# EAGLE library part DC-ME (library digi)
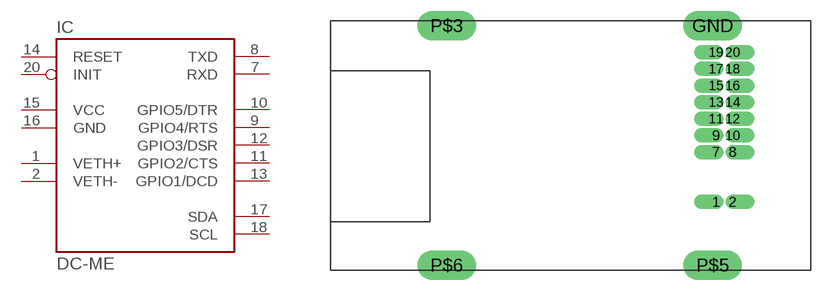
[diagram p0: symbol with the pads of DC-ME; footprint DC-ME]

Designator prefix IC

## DC-ME  [DC-ME]
1  VETH+
2  VETH-
7  RXD
8  TXD
9  GPIO4/RTS
10  GPIO5/DTR
11  GPIO2/CTS
12  GPIO3/DSR
13  GPIO1/DCD
14  RESET  in
15  VCC  pwr
16  GND  pwr
17  SDA
18  SCL
20  INIT  in

## Footprint DC-ME (pad centres in mm)
drill 0.61 pad 1.016 offset: 1 29.464,5.207; 2 30.734,5.207; 7 29.464,9.017; 8 30.734,9.017; 9 29.464,10.287; 10 30.734,10.287; 11 29.464,11.557; 12 30.734,11.557; 13 29.464,12.827; 14 30.734,12.827; 15 29.464,14.097; 16 30.734,14.097; 17 29.464,15.367; 18 30.734,15.367; 19 29.464,16.637; 20 30.734,16.637
drill 1.5 pad 2.184 long: GND 29.21,18.669; P$3 8.89,18.669; P$5 29.21,0.381; P$6 8.89,0.381